# Altium schematic symbol library eUSR_SchLibrary - LEDs.SchLib: 3 symbols
Pins are listed as number, name and electrical type; pins without a type are passive.

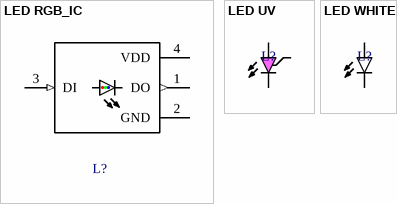
[diagram p0: symbols LED RGB_IC to LED WHITE]

## LED RGB_IC
designator L?  (value not drawn)
ComponentLink1Description: Datasheet; ComponentLink1URL: *; ComponentLink2Description: Distributor Link; ComponentLink2URL: *
pins: 1 DO (out), 2 GND (power), 3 DI (in), 4 VDD (power)

## LED UV
designator L?  (value not drawn)
ComponentLink1Description: Datasheet; ComponentLink1URL: *; ComponentLink2Description: Distributor Link; ComponentLink2URL: *
pins: A, C, TP

## LED WHITE
designator L?  (value not drawn)
ComponentLink1Description: Datasheet; ComponentLink1URL: *; ComponentLink2Description: Distributor Link; ComponentLink2URL: *
pins: A, C